# EAGLE library part SM08B-SRSS-TB(LF)(SN) (library SM08B-SRSS-TB_LF__SN_)
SH Series 8 Position 1 mm Pitch Surface Mount Side Entry Shrouded Header Check prices <https://pricing.snapeda.com/parts/SM08B-SRSS-TB%28LF%29%28SN%29/JST%20Sales/view-part?ref=eda>
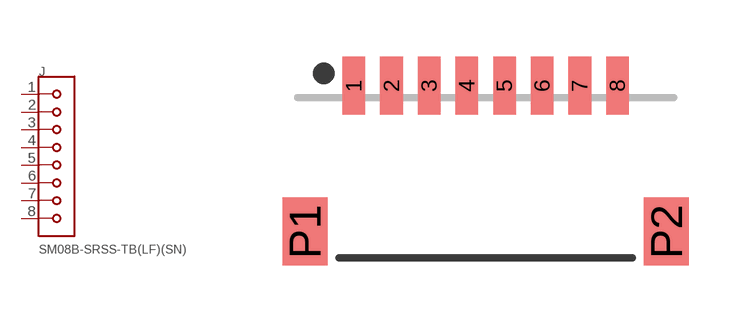
[diagram p0: symbol with the pads of JST_SM08B-SRSS-TB(LF)(SN); footprint JST_SM08B-SRSS-TB(LF)(SN)]

Designator prefix J

## SM08B-SRSS-TB(LF)(SN) (Availability: Warning; Description: Connector Header Surface Mount, Right Angle 8 position 0.039 (1.00mm); MF: JST Sales; MP: SM08B-SRSS-TB(LF)(SN); Package: None; Price: None)  [JST_SM08B-SRSS-TB(LF)(SN)]
1  1  pas
2  2  pas
3  3  pas
4  4  pas
5  5  pas
6  6  pas
7  7  pas
8  8  pas

## Footprint JST_SM08B-SRSS-TB(LF)(SN) (pad centres in mm)
smd 0.6 x 1.55: 1 -3.5,4.775; 2 -2.5,4.775; 3 -1.5,4.775; 4 -0.5,4.775; 5 0.5,4.775; 6 1.5,4.775; 7 2.5,4.775; 8 3.5,4.775
smd 1.2 x 1.8: P1 -4.8,0.9; P2 4.8,0.9